# EAGLE library part MA03-2W (library con-lstb)
PIN HEADER
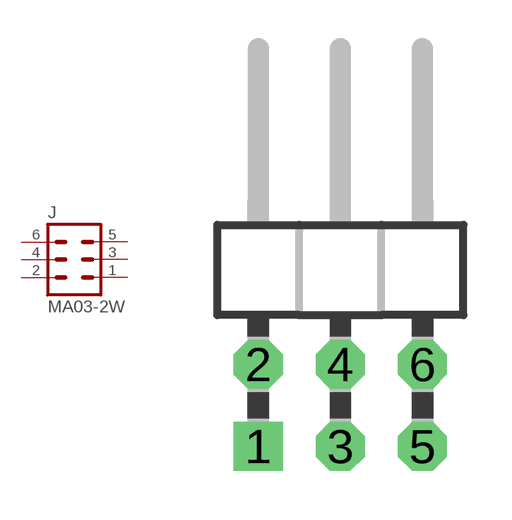
[diagram p38: symbol with the pads of MA03-2W; footprint MA03-2W]

Designator prefix J

## MA03-2W  [MA03-2W]
1  1  pas
2  2  pas
3  3  pas
4  4  pas
5  5  pas
6  6  pas

## Footprint MA03-2W (pad centres in mm)
PIN HEADER
drill 1.016 square: 1 -2.54,-5.08
drill 1.016 octagon: 2 -2.54,-2.54; 3 0,-5.08; 4 0,-2.54; 5 2.54,-5.08; 6 2.54,-2.54